# EAGLE library part TC1602A-01T (library Dargon's_lib)
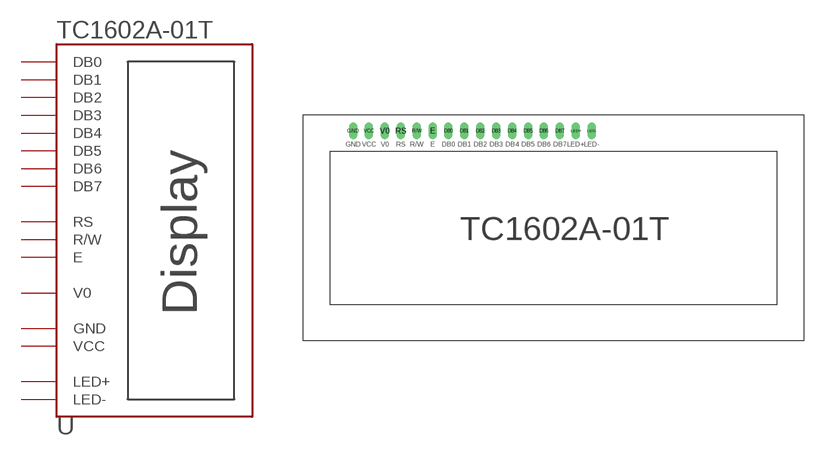
[diagram p2: symbol with the pads of TC1602A-01T; footprint TC1602A-01T]

Designator prefix -

## TC1602A-01T  [TC1602A-01T]
DB0  DB0
DB1  DB1
DB2  DB2
DB3  DB3
DB4  DB4
DB5  DB5
DB6  DB6
DB7  DB7
E  E
GND  GND  pwr
LED+  LED+
LED-  LED-
R/W  R/W
RS  RS
V0  V0
VCC  VCC  pwr

## Footprint TC1602A-01T (pad centres in mm)
drill 0.813 long: DB0 15.22,-0.02; DB1 17.76,-0.02; DB2 20.3,-0.02; DB3 22.84,-0.02; DB4 25.38,-0.02; DB5 27.92,-0.02; DB6 30.46,-0.02; DB7 33,-0.02; E 12.68,-0.02; GND -0.02,-0.02; LED+ 35.54,-0.02; LED- 38.08,-0.02; R/W 10.14,-0.02; RS 7.6,-0.02; V0 5.06,-0.02; VCC 2.52,-0.02